# EAGLE library part VEML6070 (library SparkFun-Sensors)
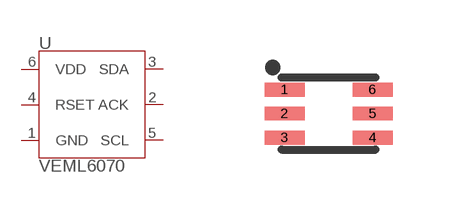
[diagram p53: symbol with the pads of VEML6070; footprint VEML6070]

Designator prefix U

## VEML6070" (PROD_ID: SEN-14367; VALUE: VEML6070)  [VEML6070]
1  GND
2  ACK
3  SDA
4  RSET
5  SCL
6  VDD

## Footprint VEML6070 (pad centres in mm)
VEML6070 - Package for the VEML6070 Specifications: Pin count: 6 Pin pitch: .6mm Area: 2.35mm x 1.8mm Datasheet referenced for footprint <https://www.mouser.com/pdfdocs/veml6070.PDF>
smd 1 x 0.35: 1 -1.1,0.6; 2 -1.1,0; 3 -1.1,-0.6; 4 1.1,-0.6; 5 1.1,0; 6 1.1,0.6